# Altium schematic symbol library Phoenix.SchLib: 39 symbols
Pins are listed as number, name and electrical type; pins without a type are passive.

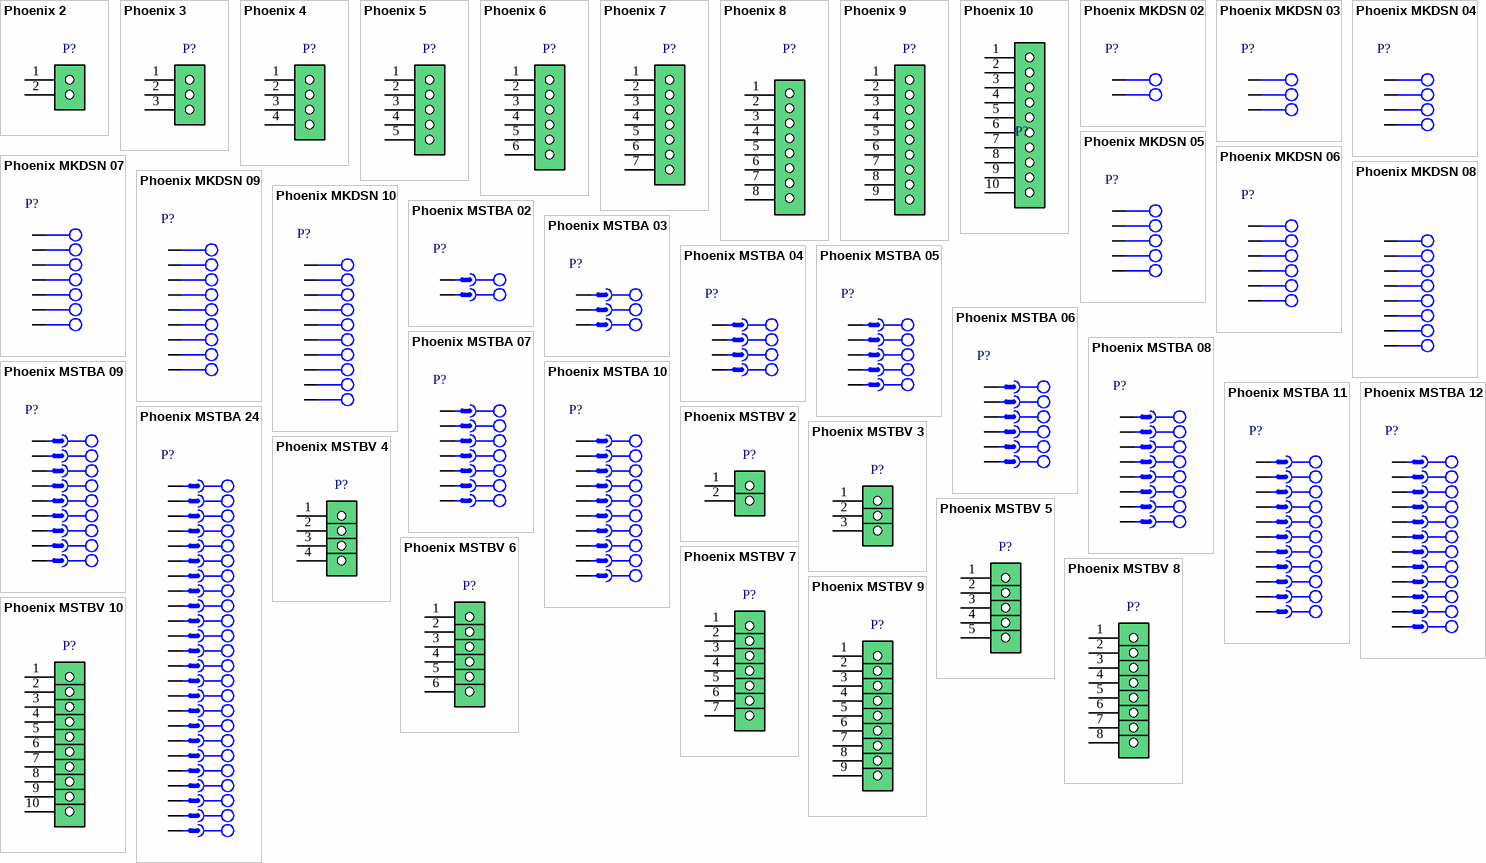
[diagram p0: symbols Phoenix 2 to Phoenix MSTBV 10]

## Phoenix 2
designator P?
ComponentLinkp-URL: https://www.smartw.ir/; DatasheetVersion: 2022
pins: 1, 2

## Phoenix 3
designator P?
ComponentLinkp-URL: https://www.smartw.ir/; DatasheetVersion: 2022
pins: 1, 2, 3

## Phoenix 4
designator P?
ComponentLinkp-URL: https://www.smartw.ir/; DatasheetVersion: 2022
pins: 1, 2, 3, 4

## Phoenix 5
designator P?
ComponentLinkp-URL: https://www.smartw.ir/; DatasheetVersion: 2022
pins: 1, 2, 3, 4, 5

## Phoenix 6
designator P?
ComponentLinkp-URL: ComponentLinkp-URL https://www.smartw.ir/; DatasheetVersion: 2022
pins: 1, 2, 3, 4, 5, 6

## Phoenix 7
designator P?
ComponentLinkp-URL: https://www.smartw.ir/; DatasheetVersion: 2022
pins: 1, 2, 3, 4, 5, 6, 7

## Phoenix 8
designator P?
ComponentLinkp-URL: https://www.smartw.ir/; DatasheetVersion: 2022
pins: 1, 2, 3, 4, 5, 6, 7, 8

## Phoenix 9
designator P?
ComponentLinkp-URL: https://www.smartw.ir/; DatasheetVersion: 2022
pins: 1, 2, 3, 4, 5, 6, 7, 8, 9

## Phoenix 10
designator P?
ComponentLinkp-URL: https://www.smartw.ir/; DatasheetVersion: 2022
pins: 1, 2, 3, 4, 5, 6, 7, 8, 9, 10

## Phoenix MKDSN 02
designator P?
DatasheetVersion: 2022
pins: 1, 2

## Phoenix MKDSN 03
designator P?
DatasheetVersion: 2022
pins: 1, 2, 3

## Phoenix MKDSN 04
designator P?
DatasheetVersion: 2022
pins: 1, 2, 3, 4

## Phoenix MKDSN 05
designator P?
DatasheetVersion: 2022
pins: 1, 2, 3, 4, 5

## Phoenix MKDSN 06
designator P?
DatasheetVersion: 2022
pins: 1, 2, 3, 4, 5, 6

## Phoenix MKDSN 07
designator P?
DatasheetVersion: 2022
pins: 1, 2, 3, 4, 5, 6, 7

## Phoenix MKDSN 08
designator ?
DatasheetVersion: 2022
pins: 1, 2, 3, 4, 5, 6, 7, 8

## Phoenix MKDSN 09
designator P?
DatasheetVersion: 2022
pins: 1, 2, 3, 4, 5, 6, 7, 8, 9

## Phoenix MKDSN 10
designator P?
DatasheetVersion: 2022
pins: 1, 2, 3, 4, 5, 6, 7, 8, 9, 10

## Phoenix MSTBA 02
designator P?
DatasheetVersion: 2022
pins: 1, 2

## Phoenix MSTBA 03
designator P?
DatasheetVersion: 2022
pins: 1, 2, 3

## Phoenix MSTBA 04
designator P?
DatasheetVersion: 2022
pins: 1, 2, 3, 4

## Phoenix MSTBA 05
designator P?
DatasheetVersion: 2022
pins: 1, 2, 3, 4, 5

## Phoenix MSTBA 06
designator P?
DatasheetVersion: 2022
pins: 1, 2, 3, 4, 5, 6

## Phoenix MSTBA 07
designator P?
DatasheetVersion: 2022
pins: 1, 2, 3, 4, 5, 6, 7

## Phoenix MSTBA 08
designator P?
DatasheetVersion: 2022
pins: 1, 2, 3, 4, 5, 6, 7, 8

## Phoenix MSTBA 09
designator P?
DatasheetVersion: 2022
pins: 1, 2, 3, 4, 5, 6, 7, 8, 9

## Phoenix MSTBA 10
designator P?
DatasheetVersion: 2022
pins: 1, 2, 3, 4, 5, 6, 7, 8, 9, 10

## Phoenix MSTBA 11
designator P?
DatasheetVersion: 2022
pins: 1, 2, 3, 4, 5, 6, 7, 8, 9, 10, 11

## Phoenix MSTBA 12
designator P?
DatasheetVersion: 2022
pins: 1, 2, 3, 4, 5, 6, 7, 8, 9, 10, 11, 12

## Phoenix MSTBA 24
designator P?
DatasheetVersion: 2022
pins: 1, 2, 3, 4, 5, 6, 7, 8, 9, 10, 11, 12, 13, 14, 15, 16, 17, 18, 19, 20, 21, 22, 23, 24

## Phoenix MSTBV 2
designator P?
ComponentLinkp-URL: https://www.smartw.ir/; DatasheetVersion: 2022
pins: 1, 2

## Phoenix MSTBV 3
designator P?
ComponentLinkp-URL: https://www.smartw.ir/; DatasheetVersion: 2022
pins: 1, 2, 3

## Phoenix MSTBV 4
designator P?
ComponentLinkp-URL: https://www.smartw.ir/; DatasheetVersion: 2022
pins: 1, 2, 3, 4

## Phoenix MSTBV 5
designator P?
ComponentLinkp-URL: https://www.smartw.ir/; DatasheetVersion: 2022
pins: 1, 2, 3, 4, 5

## Phoenix MSTBV 6
designator P?
ComponentLinkp-URL: https://www.smartw.ir/; DatasheetVersion: 2022
pins: 1, 2, 3, 4, 5, 6

## Phoenix MSTBV 7
designator P?
ComponentLinkp-URL: https://www.smartw.ir/; DatasheetVersion: 2022
pins: 1, 2, 3, 4, 5, 6, 7

## Phoenix MSTBV 8
designator P?
ComponentLinkp-URL: https://www.smartw.ir/; DatasheetVersion: 2022
pins: 1, 2, 3, 4, 5, 6, 7, 8

## Phoenix MSTBV 9
designator P?
ComponentLinkp-URL: https://www.smartw.ir/; DatasheetVersion: 2022
pins: 1, 2, 3, 4, 5, 6, 7, 8, 9

## Phoenix MSTBV 10
designator P?
ComponentLinkp-URL: https://www.smartw.ir/; DatasheetVersion: 2022
pins: 1, 2, 3, 4, 5, 6, 7, 8, 9, 10